# EAGLE library part ATZB-RF-233-1-C (library mbed-HDK-MF-ATMEL)
Atmel ZigBit Amp RF233 Module
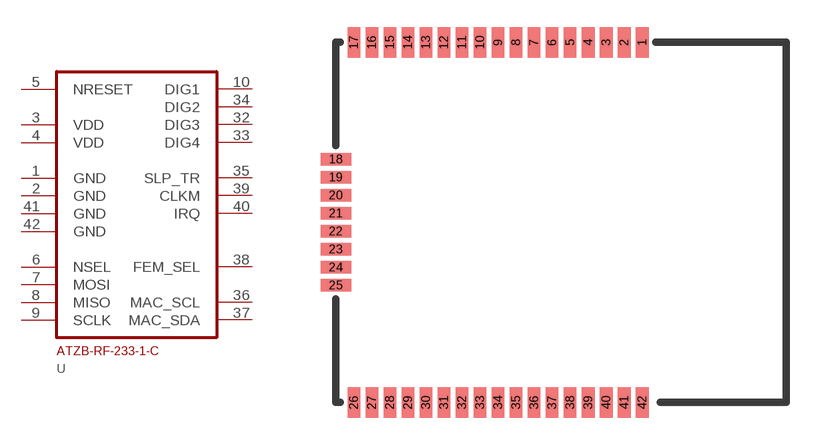
[diagram p0: symbol with the pads of ATZB-RF-233-1-C; footprint ATZB-RF-233-1-C]

Designator prefix U

## ATZB-RF-233-1-C (MF: Atmel; MFN: ATZB-RF-233-1-CR; OC-DIGIKEY: ATZB-RF-233-1-CRCT-ND; OC-NEWARK: 27X8560)  [ATZB-RF-233-1-C]
1  GND
2  GND
3  VDD
4  VDD
5  NRESET
6  NSEL
7  MOSI
8  MISO
9  SCLK
10  DIG1
32  DIG3
33  DIG4
34  DIG2
35  SLP_TR
36  MAC_SCL
37  MAC_SDA
38  FEM_SEL
39  CLKM
40  IRQ
41  GND
42  GND

## Footprint ATZB-RF-233-1-C (pad centres in mm)
smd 0.7 x 1.7: 1 16,20; 2 15,20; 3 14,20; 4 13,20; 5 12,20; 6 11,20; 7 10,20; 8 9,20; 9 8,20; 10 7,20; 11 6,20; 12 5,20; 13 4,20; 14 3,20; 15 2,20; 16 1,20; 17 0,20; 26 0,0; 27 1,0; 28 2,0; 29 3,0; 30 4,0; 31 5,0; 32 6,0; 33 7,0; 34 8,0; 35 9,0; 36 10,0; 37 11,0; 38 12,0; 39 13,0; 40 14,0; 41 15,0; 42 16,0
smd 1.7 x 0.7: 18 -1,13.5; 19 -1,12.5; 20 -1,11.5; 21 -1,10.5; 22 -1,9.5; 23 -1,8.5; 24 -1,7.5; 25 -1,6.5